# Altium schematic symbol library Max.SchLib: 2 symbols
Pins are listed as number, name and electrical type; pins without a type are passive.

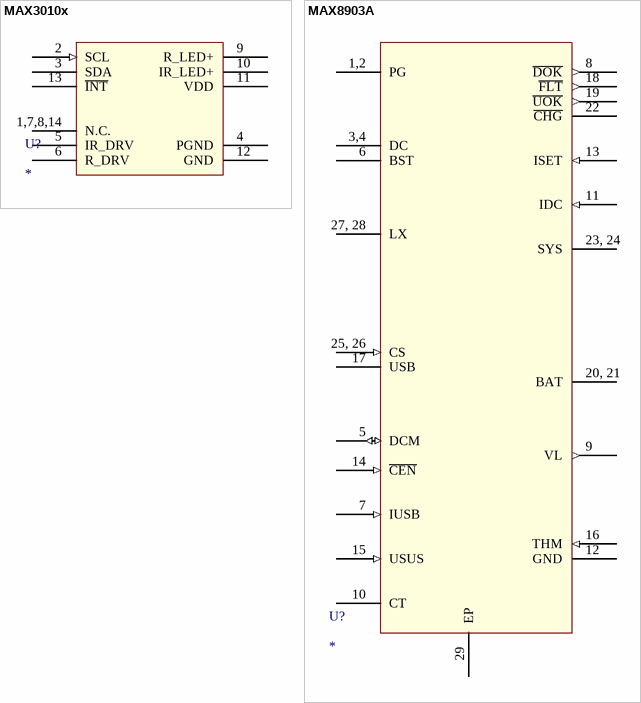
[diagram p0: symbols MAX3010x to MAX8903A]

## MAX3010x
designator U?
Pulse Oximeter and Heart-Rate Sensor IC  for Wearable Health
footprint OESIP14R560x330 (14 pin OESIP 5.6mm by 3.3 mm)
pins: 1,7,8,14 N.C. "No Connection. Connect to PCB Pad for Mechanical Stability.", 2 SCL (in) "I2C Clock Input", 3 SDA (oc) "I2C Clock Data, Bidirectional (Open-Drain)", 4 PGND (power) "Power Ground of the LED Driver Blocks", 5 IR_DRV "IR LED Cathode and LED Driver Connection Point. Leave floating in circuit.", 6 R_DRV "Red LED Cathode and LED Driver Connection Point. Leave floating in circuit.", 9 R_LED+ (power) "Power Supply (Anode Connection) for Red LED. Bypass to PGND for best performance. Connected to IR_LED+ internally.", 10 IR_LED+ (power) "Power Supply (Anode Connection) for IR LED. Bypass to PGND for best performance. Con-nected to R_LED+ internally.", 11 VDD (power) "Analog Power Supply Input. Bypass to GND for best performance.", 12 GND (power) "Analog Ground", 13 ~{INT} (oc) "Active-Low Interrupt (Open-Drain)"

## MAX8903A
designator U?
2A 1-Cell Li+ DC-DC Chargersfor USB and Adapter Power
footprint QFN28P40S400X400EP260x260 (QFN, 28-Leads, Body 4.00x4.00mm, Pitch 0.40mm, Thermal Pad 2.60x2.60mm, IPC Medium Density)
pins: 1,2 PG (power), 3,4 DC (power), 5 DCM (io), 6 BST (power), 7 IUSB (in), 8 ~{DOK} (out), 9 VL (out), 10 CT (power), 11 IDC (in), 12 GND (power), 13 ISET (in), 14 ~{CEN} (in), 15 USUS (in), 16 THM (in), 17 USB (power), 18 ~{FLT} (out), 19 ~{UOK} (out), 20, 21 BAT (power), 22 ~{CHG} (oc), 23, 24 SYS (power), 25, 26 CS (in), 27, 28 LX (power), 29 EP (power)